# Altium footprint library EXP_HW_V2.PcbLib: 9 footprints
Each footprint in its own frame and in the unit in brackets; x right, y up, seen from the top. Pads: shape width x height; smd on the part's side, far side on the other; paste and mask are expansions set on the pad; w line width, h text height; cw(c..) or ccw(c..) is an arc to the next point about the centre after c.
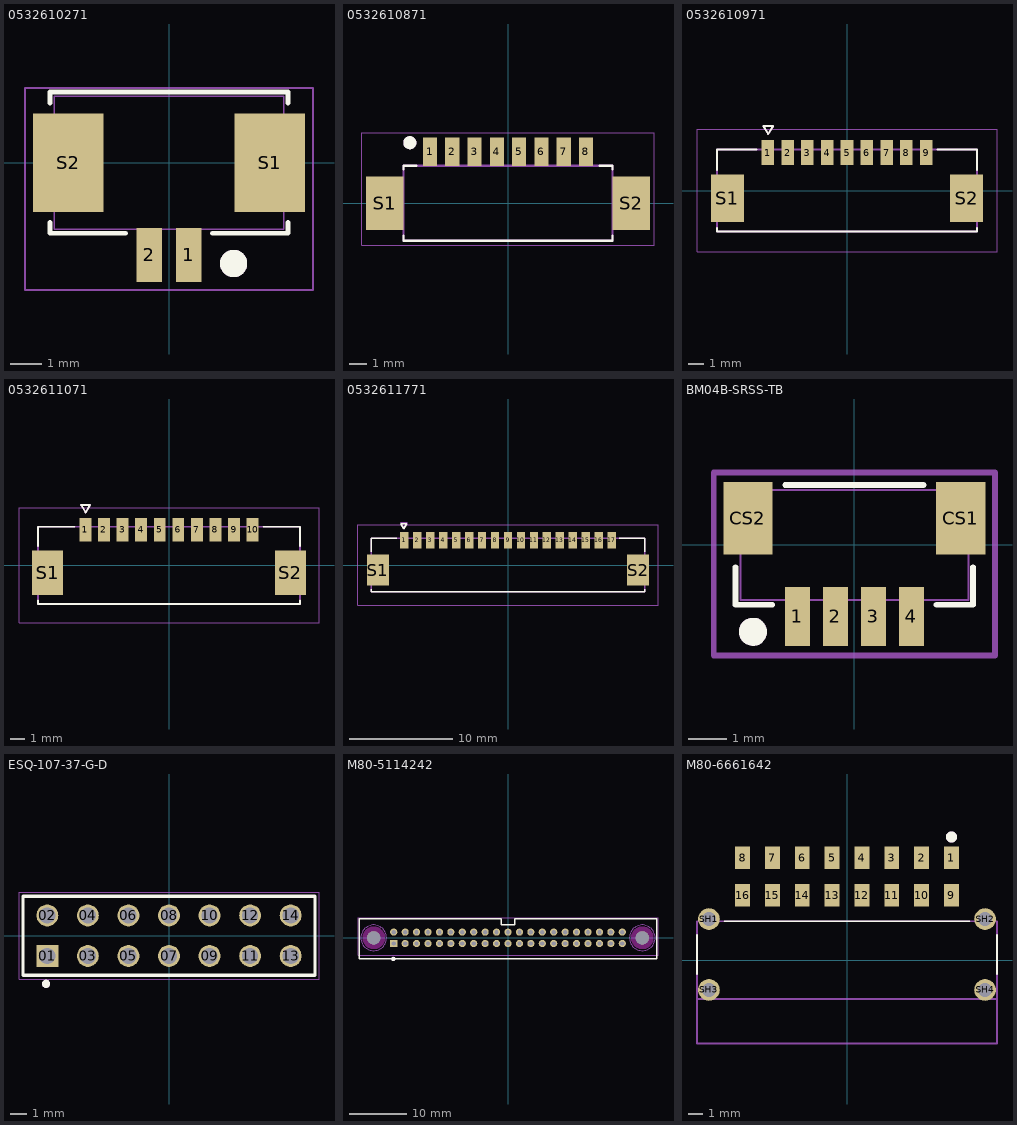
[diagram p0: the footprints below, top view; thin cyan lines are the x and y axes]

## 0532610271 [mil] "CONN HEADER SMD R/A 2POS 1.25MM"
pads (4):
  rect 32x67 smd paste+0 mask+0: 1(24.61,-114.35) 2(-24.61,-114.35)
  rect 87x122 smd paste-61 mask-61: S1(125,-0.18) S2(-125,-0.18)
Top Overlay:
  circle w20: c80,-125 r7
  lines w6: -147.5,-74.28 -147.5,-87.5 -53.71,-87.5 ; -147.5,73.92 -147.5,87.5 147.5,87.5 147.5,73.92 ; 53.71,-87.5 147.5,-87.5 147.5,-74.28
Mechanical 13:
  circle w20: c80,-125 r7
  lines w2: -142.5,-82.5 -142.5,82.5 142.5,82.5 142.5,-82.5 -142.5,-82.5
Mechanical 15:
  lines w2: -178.5,-157.85 178.5,-157.85 178.5,92.5 -178.5,92.5 -178.5,-157.85
3D body "532610271.stp": height 125.98, standoff -7.87, extent -150.59,-115 150.59,89.72

## 0532610871 [mm] "CONN HEADER SMD R/A 8POS 1.25MM"
pads (10):
  rect 0.8x1.6 smd: 1(-4.375,2.9) 2(-3.125,2.9) 3(-1.875,2.9) 4(-0.625,2.9) 5(0.625,2.9) 6(1.875,2.9) 7(3.125,2.9) 8(4.375,2.9)
  rect 2.1x3 smd: S1(-6.925,0) S2(6.925,0)
Top Overlay:
  circle w0.381: c-5.515,3.4 r0.178
  lines w0.127: -5.875,-1.825 -5.875,-2.1 5.875,-2.1 5.875,-1.825 ; -5.875,1.9 -5.875,2.1 -5.15,2.1 ; 5.15,2.1 5.875,2.1 5.875,1.9
Top Assembly:
  circle w0.381: c-5.515,3.4 r0.178
  lines w0.127: -5.875,-2.1 5.875,-2.1 5.875,2.1 -5.875,2.1 -5.875,-2.1
  text "'.Designator'" at -9.318,-1.454 h1.8
Mechanical 15:
  lines w0.05: -8.225,-2.35 8.225,-2.35 8.225,3.95 -8.225,3.95 -8.225,-2.35

## 0532610971 [mm] "CONN HEADER SMD R/A 9POS 1.25MM"
pads (11):
  rect 0.8x1.6 smd mask+0.076: 1(-5,2.4) 2(-3.75,2.4) 3(-2.5,2.4) 4(-1.25,2.4) 5(0,2.4) 6(1.25,2.4) 7(2.5,2.4) 8(3.75,2.4) 9(5,2.4)
  rect 2.1x3 smd mask+0.076: S1(-7.55,-0.5) S2(7.55,-0.5)
Top Overlay:
  lines w0.127: -8.2,-2.35 -8.2,-2.6 8.2,-2.6 8.2,-2.35 ; -8.2,1.3 -8.2,2.6 -5.72,2.6 ; 5.72,2.6 8.2,2.6 8.2,1.3 ; -5.278,4.067 -4.978,3.567 -4.678,4.067 -5.278,4.067
Top Assembly:
  text "'.Designator'" at -11.717,-2.718 h1.9
Mechanical 13:
  lines w0.127: -8.2,-2.6 -8.2,2.6 8.2,2.6 8.2,-2.6 -8.2,-2.6 ; -5.278,4.067 -4.978,3.567 -4.678,4.067 -5.278,4.067
Mechanical 15:
  lines w0.05: -9.47,-3.87 -9.47,3.87 9.47,3.87 9.47,-3.87 -9.47,-3.87
3D body "0532610971.stp": height 3.2, standoff -0.2, extent -8.2,-2.667 8.2,2.533

## 0532611071 [mm] "CONN HEADER SMD R/A 10POS 1.25MM"
pads (12):
  rect 0.8x1.6 smd mask+0.076: 1(-5.625,2.4) 2(-4.375,2.4) 3(-3.125,2.4) 4(-1.875,2.4) 5(-0.625,2.4) 6(0.625,2.4) 7(1.875,2.4) 8(3.125,2.4) 9(4.375,2.4) 10(5.625,2.4)
  rect 2.1x3 smd mask+0.076: S1(-8.175,-0.5) S2(8.175,-0.5)
Top Overlay:
  lines w0.127: -8.825,-2.35 -8.825,-2.6 8.825,-2.6 8.825,-2.35 ; -8.825,1.3 -8.825,2.6 -6.345,2.6 ; 6.345,2.6 8.825,2.6 8.825,1.3 ; -5.913,4.057 -5.313,4.057 -5.613,3.557 -5.913,4.057
Top Assembly:
  lines w0.127: -8.825,-2.6 -8.825,2.6 8.825,2.6 8.825,-2.6 -8.825,-2.6 ; -5.913,4.057 -5.613,3.557 -5.313,4.057 -5.913,4.057
  text "'.Designator'" at -9.318,-1.454 h1.6
Mechanical 15:
  lines w0.05: -10.095,-3.87 10.095,-3.87 10.095,3.87 -10.095,3.87 -10.095,-3.87

## 0532611771 [mm] "CONN HEADER SMD R/A 17POS 1.25MM"
pads (19):
  rect 0.8x1.6 smd mask+0.076: 1(-10,2.4) 2(-8.75,2.4) 3(-7.5,2.4) 4(-6.25,2.4) 5(-5,2.4) 6(-3.75,2.4) 7(-2.5,2.4) 8(-1.25,2.4) 9(0,2.4) 10(1.25,2.4) 11(2.5,2.4) 12(3.75,2.4) 13(5,2.4) 14(6.25,2.4) 15(7.5,2.4) 16(8.75,2.4) 17(10,2.4)
  rect 2.1x3 smd mask+0.076: S1(-12.55,-0.5) S2(12.55,-0.5)
Top Overlay:
  lines w0.127: -13.2,-2.35 -13.2,-2.6 13.2,-2.6 13.2,-2.35 ; -13.2,1.3 -13.2,2.6 -10.72,2.6 ; 10.72,2.6 13.2,2.6 13.2,1.3 ; -10.358,3.987 -10.058,3.487 -9.758,3.987 -10.358,3.987
Top Assembly:
  lines w0.127: -13.2,-2.6 13.2,-2.6 13.2,2.6 -13.2,2.6 -13.2,-2.6 ; -10.333,4.064 -9.733,4.064 -10.033,3.564 -10.333,4.064
  text "'.Designator'" at -9.318,-1.454 h1.9
Mechanical 15:
  lines w0.05: -14.47,-3.87 -14.47,3.87 14.47,3.87 14.47,-3.87 -14.47,-3.87
3D body "0532611771.stp": height 3.5, standoff 0, extent -13.39,-2.425 13.39,3.145

## BM04B-SRSS-TB [mil] "CONN HEADER SMD 4POS 1MM"
pads (6):
  rect 26x61 smd paste+0 mask+0: 1(-59.06,-74.1) 2(-19.68,-74.1) 3(19.68,-74.1) 4(59.06,-74.1)
  rect 51x75 smd paste-37.5 mask-37.5: CS1(110.24,27.47) CS2(-110.24,27.47)
Top Overlay:
  circle w15: c-105,-90 r7
  lines w6: -123,-23.13 -123,-62 -85.16,-62 ; -71.64,62 71.64,62 ; 85.16,-62 123,-62 123,-23.13
Bottom Overlay:
  circle w20: c-148,-74.1 r15
Top Assembly:
  circle w15: c-105,-90 r7
Mechanical 13:
  lines w2: -118,-57 118,-57 118,57 -118,57 -118,-57
Mechanical 15:
  lines w6: -145.74,-114.6 -145.74,74.97 145.74,74.97 145.74,-114.6 -145.74,-114.6
3D body "BM04B-SRSS-TB.STEP": height 172.26, standoff 1, extent -118.11,-84.65 118.11,57.09

## ESQ-107-37-G-D [mm] "CONN SOCKET 14POS 0.1 GOLD PCB"
pads (14):
  rect 1.37x1.37 hole 1.02: 01(-7.62,-1.27)
  round 1.37 hole 1.02: 02(-7.62,1.27) 03(-5.08,-1.27) 04(-5.08,1.27) 05(-2.54,-1.27) 06(-2.54,1.27) 07(0,-1.27) 08(0,1.27) 09(2.54,-1.27) 10(2.54,1.27) 11(5.08,-1.27) 12(5.08,1.27) 13(7.62,-1.27) 14(7.62,1.27)
Top Overlay:
  circle w0.254: c-7.701,-3.012 r0.127
  lines w0.2: -9.145,-2.475 9.145,-2.475 9.145,2.475 -9.145,2.475 -9.145,-2.475
Top Assembly:
  circle w0.254: c-7.701,-3.012 r0.127
  lines w0.1: -9.145,-2.475 -9.145,2.475 ; -9.145,-2.475 9.145,-2.475 ; -9.145,-2.475 -9.145,2.475 ; -9.145,2.475 9.145,2.475 ; -9.145,2.475 9.145,2.475 ; 9.145,-2.475 9.145,2.475 ; 9.145,-2.475 9.145,2.475
  text "'.Designator'" at -11.017,-1.679 h1.9
Mechanical 15:
  lines w0.05: -9.395,-2.725 9.395,-2.725 9.395,2.725 -9.395,2.725 -9.395,-2.725
3D body "ESQ-107-37-G-D.step": height 11.13, standoff -2.21, extent -9.144,-2.54 9.144,2.54

## M80-5114242 [mm] "CONN HEADER VERT 42POS 2MM"
pads (44):
  rect 1.258x1.258 / inner round 1.258 / far side rect 1.258x1.258 hole 0.75: 1(-20,-1)
  round 1.258 hole 0.75: 2(-18,-1) 3(-16,-1) 4(-14,-1) 5(-12,-1) 6(-10,-1) 7(-8,-1) 8(-6,-1) 9(-4,-1) 10(-2,-1) 11(0,-1) 12(2,-1) 13(4,-1) 14(6,-1) 15(8,-1) 16(10,-1) 17(12,-1) 18(14,-1) 19(16,-1) 20(18,-1) 21(20,-1) 22(-20,1) 23(-18,1) 24(-16,1) 25(-14,1) 26(-12,1) 27(-10,1) 28(-8,1) 29(-6,1) 30(-4,1) 31(-2,1) 32(0,1) 33(2,1) 34(4,1) 35(6,1) 36(8,1) 37(10,1) 38(12,1) 39(14,1) 40(16,1) 41(18,1) 42(20,1)
  round 2.3 hole 2.3 unplated: ""(-23.5,0) ""(23.5,0)
Top Overlay:
  circle w0.381: c-20.066,-3.683 r0.178
  lines w0.254: -26.035,-3.683 26.035,-3.683 26.035,3.302 1.143,3.302 1.143,2.286 -1.143,2.286 -1.143,3.302 -26.035,3.302 -26.035,-3.683
Keep-Out Layer:
  circle w2: c23.5,0 r1
  circle w2: c-23.5,0 r1
  circle w2: c-23.5,0 r1
  circle w2: c23.5,0 r1
Top Assembly:
  circle w0.254: c-20.066,-3.683 r0.254
  text "'.Designator'" at -9.318,-1.454 h2
Mechanical 15:
  lines w0.05: -26.25,-3.025 26.25,-3.025 26.25,3.525 -26.25,3.525 -26.25,-3.025
Mechanical 16:
  circle w0.05: c-23.5,0 r2.25
  circle w0.05: c23.5,0 r2.25
3D body "m80-5114242.stp": height 5.66, standoff -5.94, extent -26,-3.275 26,2.775

## M80-6661642 [mm] "CONN HEADER SMD R/A 16POS 2MM"
pads (20):
  rect 1x1.5 smd: 1(7,6.85) 2(5,6.85) 3(3,6.85) 4(1,6.85) 5(-1,6.85) 6(-3,6.85) 7(-5,6.85) 8(-7,6.85) 9(7,4.35) 10(5,4.35) 11(3,4.35) 12(1,4.35) 13(-1,4.35) 14(-3,4.35) 15(-5,4.35) 16(-7,4.35)
  round 1.458 hole 0.95: SH1(-9.25,2.75) SH2(9.25,2.75) SH3(-9.25,-2) SH4(9.25,-2)
Top Overlay:
  circle w0.381: c7,8.25 r0.178
  lines w0.127: -10.05,-0.95 -10.05,1.7 ; -8.2,2.6 8.2,2.6 ; 10.05,-0.95 10.05,1.7
Top Assembly:
  circle w0.381: c7,8.25 r0.178
  lines w0.127: -10.05,-2.6 -10.05,2.6 10.05,2.6 10.05,-2.6 ; -10.05,-2.6 -10.05,-5.6 10.05,-5.6 10.05,-2.6 ; -10.05,-2.6 10.05,-2.6
  text "'.Designator'" at -9.318,-1.454 h2
3D body "m80-6661642.stp": height 5.98, standoff -2.92, extent -9.95,-5.831 9.95,7.119